# Altium schematic symbol library LibTim_ICs.SchLib: 4 symbols
Pins are listed as number, name and electrical type; pins without a type are passive.

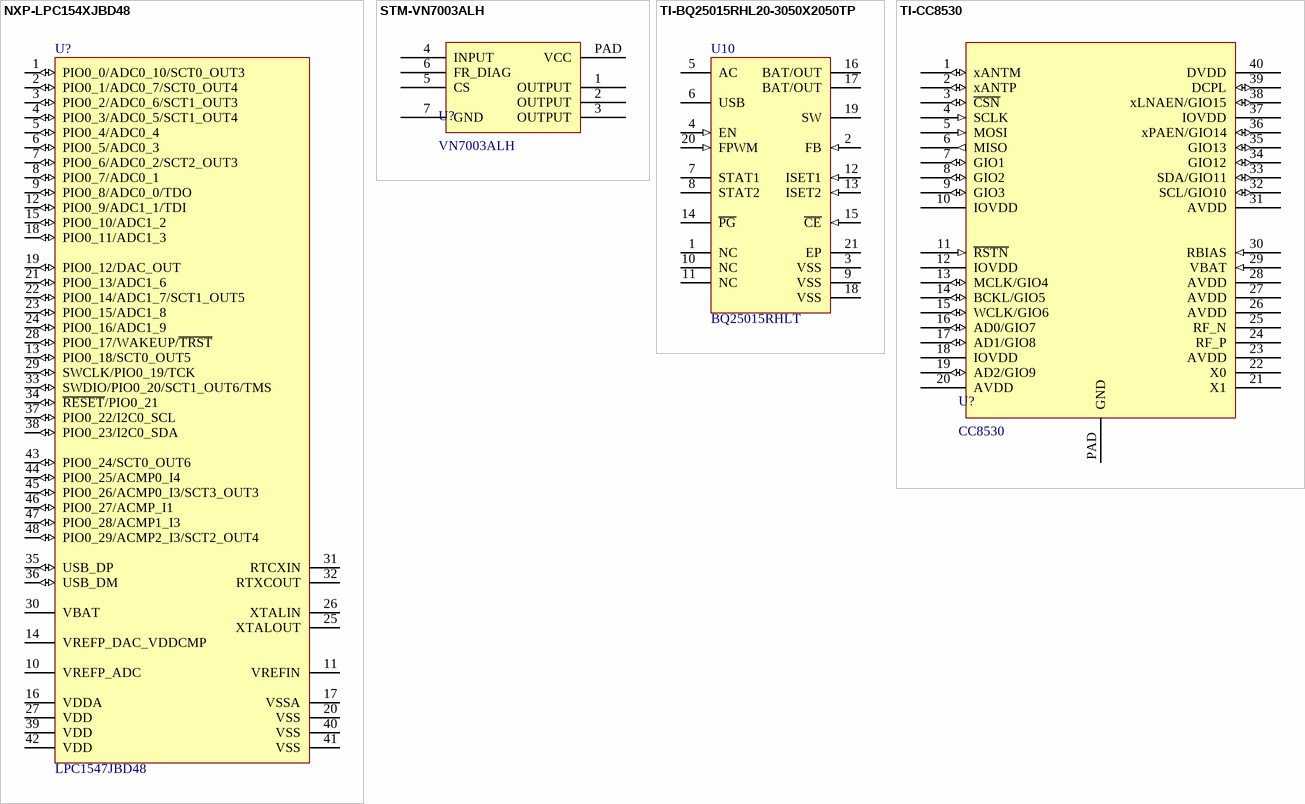
[diagram p0: symbols NXP-LPC154XJBD48 to TI-CC8530]

## NXP-LPC154XJBD48
designator U?, comment LPC1547JBD48
32-bit ARM Cortex-M3 microcontroller; up to 256  kB flash and 36 kB SRAM; FS USB, CAN, RTC, SPI, USART, I2C; Manufacturer: NXP; Timers: 4; ADC channels: 16; PLL: Y; I2C: 1; GPIOs: 30; VDD (min): 2.4 V; fmax: 72 MHz; SPI: 2; VDD (typ): 3.3 V; Flash: 64 kB; SRAM: 12 kB; VDD (max): 3.6 V; PartNumber: LPC1547JBD48; DatasheetVersion: Rev. 1.1, 29 April 2015; CAN: 1; ComponentLink2URL: http://cache.nxp.com/documents/data_sheet/LPC15XX.pdf; ComponentLink1Description: Manufacturer URL; UART: 1; ComponentLink2Description: Datasheet; PackageReference: LQFP50P1185X1185X160-48M; PackageDescription: LQFP48: Plastic Low Profile Quad Flat Package; 48 Leads; Body 7 x 7 x 1.4 mm; ComponentLink1URL: http://www.nxp.com/
footprint LQFP50P1185X1185X160-48M (LQFP, 48-Leads, Body 11.85x11.85mm, Pitch 0.50mm, IPC Low Density)
pins: 1 PIO0_0/ADC0_10/SCT0_OUT3 (io), 2 PIO0_1/ADC0_7/SCT0_OUT4 (io), 3 PIO0_2/ADC0_6/SCT1_OUT3 (io), 4 PIO0_3/ADC0_5/SCT1_OUT4 (io), 5 PIO0_4/ADC0_4 (io), 6 PIO0_5/ADC0_3 (io), 7 PIO0_6/ADC0_2/SCT2_OUT3 (io), 8 PIO0_7/ADC0_1 (io), 9 PIO0_8/ADC0_0/TDO (io), 10 VREFP_ADC, 11 VREFIN, 12 PIO0_9/ADC1_1/TDI (io), 13 PIO0_18/SCT0_OUT5 (io), 14 VREFP_DAC_VDDCMP, 15 PIO0_10/ADC1_2 (io), 16 VDDA (power), 17 VSSA (power), 18 PIO0_11/ADC1_3 (io), 19 PIO0_12/DAC_OUT (io), 20 VSS (power), 21 PIO0_13/ADC1_6 (io), 22 PIO0_14/ADC1_7/SCT1_OUT5 (io), 23 PIO0_15/ADC1_8 (io), 24 PIO0_16/ADC1_9 (io), 25 XTALOUT, 26 XTALIN, 27 VDD (power), 28 PIO0_17/WAKEUP/~{TRST} (io), 29 SWCLK/PIO0_19/TCK (io), 30 VBAT (power), 31 RTCXIN, 32 RTXCOUT, 33 SWDIO/PIO0_20/SCT1_OUT6/TMS (io), 34 ~{RESET}/PIO0_21 (io), 35 USB_DP (io), 36 USB_DM  (io), 37 PIO0_22/I2C0_SCL (io), 38 PIO0_23/I2C0_SDA (io), 39 VDD (power), 40 VSS (power), 41 VSS (power), 42 VDD (power), 43 PIO0_24/SCT0_OUT6 (io), 44 PIO0_25/ACMP0_I4 (io), 45 PIO0_26/ACMP0_I3/SCT3_OUT3 (io), 46 PIO0_27/ACMP_I1 (io), 47 PIO0_28/ACMP1_I3 (io), 48 PIO0_29/ACMP2_I3/SCT2_OUT4 (io)

## STM-VN7003ALH
designator U?, comment VN7003ALH
High-side driver with CurrentSense analog feedback for automotive applications; Manufacturer: STMicroelectronics; PartNumber: VN7003ALH; ComponentLink1Description: Manufacturer URL; ComponentLink1URL: http://www.st.com/; ComponentLink2Description: Datasheet; ComponentLink2URL: http://www.st.com/content/ccc/resource/technical/document/datasheet/group1/15/4a/35/99/be/34/44/38/DM00251685/files/DM00251685.pdf/jcr:content/translations/en.DM00251685.pdf; PackageDescription: D-PAK, 8-Pads, Body 6.20x6.66mm (max), IPC Low Density; PackageReference: DPAK85P972X240-8M
footprint DPAK85P972X240-8M (D-PAK, 8-Pads, Body 6.20x6.66mm (max), IPC Low Density)
pins: 1 OUTPUT, 2 OUTPUT, 3 OUTPUT, 4 INPUT, 5 CS, 6 FR_DIAG, 7 GND, PAD VCC

## TI-BQ25015RHL20-3050X2050TP
designator U10, comment BQ25015RHLT
Dual Input Charger with Integrated Synchronous Buck Converter, Output Adjustable, 4.5 V, -40 to 125 degC, 20-pin QFN (RHL), Green (RoHS & no Sb/Br); Manufacturer: Texas Instruments; SubFamily: Battery Charge Management; Lead Acid: N; Vin(Min)(V): 4.5; Li-Polymer: Y; Eco-Plan: Green (RoHS & no Sb/Br); ComponentLink1Description: Datasheet; Mounting Technology: Surface Mount; Over Voltage Protection: N; PackageVersion: revJ, Dec-2011; NiCd: N; PartNumber: BQ25015RHLT; DatasheetVersion: SLUS721A; PackageReference: RHL0020A; NiMH: N; PackageDescription: 20-Leads Plastic Quad Flatpack No-Lead, 4.5 x 3.5 x 0.9 mm Body, 0.5 mm Pitch, Exposed Pad; ComponentLink1URL: http://www.ti.com/general/docs/lit/getliterature.tsp?genericPartNumber=BQ25015&fileType=pdf; Li-Ion: Y
footprint RHL0020A_V (QFN, 20-Leads, Body 4.5x3.5mm, Pitch 0.5mm, Thermal Pad 3.05x2.05mm, TI Recommended)
pins: 1 NC "No connect. These pins must be left floating.", 2 FB (in) "Feedback pin for DC-DC converter;connect to voltage divider for bq25015", 3 VSS (power) "Ground Input. Also note that there is an internal electrical connection between the exposed thermal pad and VSS pins of the device. The exposed thermal pad must be connected to the same potential as the Vss pin on the (See Datasheet)", 4 EN (in) "Enable input for DC-DC converter; EN=HIGH for device enable", 5 AC (power) "Charge input voltage from AC adapter, connect 10 uF capacitor to ground", 6 USB (power) "Charge input voltage from USB adapter; connect to 10 uF capacitor to ground", 7 STAT1 (oc) "Charge status output 1 (open-drain)", 8 STAT2 (oc) "Charge status output 2 (open-drain)", 9 VSS (power) "Ground Input. Also note that there is an internal electrical connection between the exposed thermal pad and VSS pins of the device. The exposed thermal pad must be connected to the same potential as the Vss pin on the (See Datasheet)", 10 NC "No connect. These pins must be left floating.", 11 NC "No connect. These pins must be left floating.", 12 ISET1 (in) "Charge current set point for AC input and precharge and taper set point for both AC and USB", 13 ISET2 (in) "Charge current set point for USB port (High = 500 mA, Low = 100 mA, High-Z = disable USB charge)", 14 ~{PG} (oc) "Power good status output (active low, open-drain)", 15 ~{CE} (in) "Charge enable input (active low)", 16 BAT/OUT (power) "Charge current output", 17 BAT/OUT (power) "Battery input to DC-DC converter", 18 VSS (power) "Ground Input. Also note that there is an internal electrical connection between the exposed thermal pad and VSS pins of the device. The exposed thermal pad must be connected to the same potential as the Vss pin on the (See Datasheet)", 19 SW (power) "Phase node of the DC/DC converter; connect series inductor and capacitor to ground", 20 FPWM (in) "PWM control input for the DC-DC converter. A high on FPWM = forced PWM mode. A low = power save mode.", 21 EP (power) "exposed pad"

## TI-CC8530
designator U?, comment CC8530
PurePath™ Wireless 2.4 GHz RF SoC for wireless digital audio streaming; Manufacturer: Texas Instruments; PartNumber: CC8530; ComponentLink1Description: Manufacturer URL; ComponentLink1URL: http://www.ti.com/; ComponentLink2Description: Datasheet; ComponentLink2URL: http://www.ti.com/lit/ds/symlink/cc8530.pdf; PackageDescription: QFN, 40-Leads, Body 6.00x6.00mm, Pitch 0.50mm, Thermal Pad 4.50x4.50mm, IPC Low Density; PackageReference: QFN50P600X600X100_HS-41M
footprint QFN50P600X600X100_HS-41M (QFN, 40-Leads, Body 6.00x6.00mm, Pitch 0.50mm, Thermal Pad 4.50x4.50mm, IPC Low Density)
pins: 1 xANTM (io), 2 xANTP (io), 3 ~{CSN} (io), 4 SCLK (in), 5 MOSI (in), 6 MISO (out), 7 GIO1 (io), 8 GIO2 (io), 9 GIO3 (io), 10 IOVDD (power), 11 ~{RSTN} (in), 12 IOVDD (power), 13 MCLK/GIO4 (io), 14 BCKL/GIO5 (io), 15 WCLK/GIO6 (io), 16 AD0/GIO7 (io), 17 AD1/GIO8 (io), 18 IOVDD (power), 19 AD2/GIO9 (io), 20 AVDD (power), 21 X1, 22 X0, 23 AVDD (power), 24 RF_P, 25 RF_N, 26 AVDD (power), 27 AVDD (power), 28 AVDD (power), 29 VBAT (in), 30 RBIAS (in), 31 AVDD (power), 32 SCL/GIO10 (io), 33 SDA/GIO11 (io), 34 GIO12 (io), 35 GIO13 (io), 36 xPAEN/GIO14 (io), 37 IOVDD (power), 38 xLNAEN/GIO15 (io), 39 DCPL (io), 40 DVDD (power), PAD GND (power)